# Altium schematic symbol library AP22655QWU-7.SchLib: 1 symbol
Pins are listed as number, name and electrical type; pins without a type are passive.

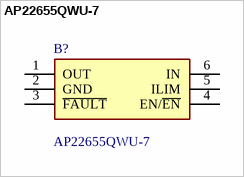
[diagram p0: symbol AP22655QWU-7]

## AP22655QWU-7
designator B?
Power Switch ICs - Power Distribution Load Switch TSOT26 T&R 3K; Manufacturer_Name: Diodes Incorporated; Geometry.Height: 0.825mm; Mouser Part Number: 621-AP22655QWU-7; Mouser Price/Stock: https://www.mouser.co.uk/ProductDetail/Diodes-Incorporated/AP22655QWU-7?qs=ulEaXIWI0c9S0Nhcy0ljbQ%3D%3D; Manufacturer_Part_Number: AP22655QWU-7; Datasheet Link: https://www.diodes.com/assets/Datasheets/AP22654Q_AP22655Q.pdf
footprint SOT95P280X82-6N
pins: 1 OUT, 2 GND, 3 ~{FAULT}, 4 EN/~{EN}, 5 ILIM, 6 IN